# EAGLE library part 24LC01B-I/SN (library Microchip_By_element14_Batch_1)
1K I2C Serial EEPROM
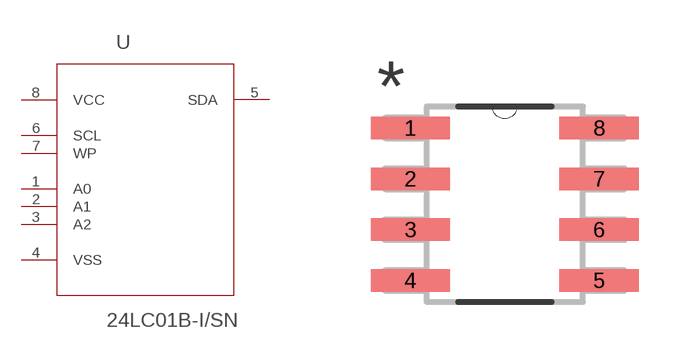
[diagram p40: symbol with the pads of SOIC127P600X175-8N; footprint SOIC127P600X175-8N]

Designator prefix -

## 24LC01B-I/SN (DESCRIPTION: 1K I2C? Serial EEPROM; MPN: 24LC01B-I/SN; OC_FARNELL: 1296569; OC_NEWARK: 12C1989; PACKAGE: SOIC-8; SUPPLIER: Microchip)  [SOIC127P600X175-8N]
1  A0  in
2  A1  in
3  A2  in
4  VSS  pwr
5  SDA
6  SCL  in
7  WP  in
8  VCC  pwr

## Footprint SOIC127P600X175-8N (pad centres in mm)
smd 1.981 x 0.559: 1 -2.362,1.905; 2 -2.362,0.635; 3 -2.362,-0.635; 4 -2.362,-1.905; 5 2.362,-1.905; 6 2.362,-0.635; 7 2.362,0.635; 8 2.362,1.905